# Altium schematic symbol library 12402012E212A.SchLib: 2 symbols
Pins are listed as number, name and electrical type; pins without a type are passive.

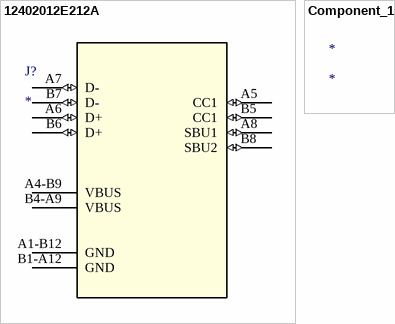
[diagram p0: symbols 12402012E212A to Component_1]

## 12402012E212A
designator J?
No Description Available; Mfr_Name: Amphenol ICC; RefDes: RefDes; Type: Type
footprint 12402012E212A_AMP
pins: A1-B12 GND (power), A4-B9 VBUS (power), A5 CC1 (io), A6 D+ (io), A7 D- (io), A8 SBU1 (io), B1-A12 GND (power), B4-A9 VBUS (power), B5 CC1 (io), B6 D+ (io), B7 D- (io), B8 SBU2 (io)

## Component_1
designator *